# EAGLE library part LTV-846 (library LTV-846)
LTV Series Quad Channel 80 V 5000 Vrms Transistor Output Optocoupler - DIP-16
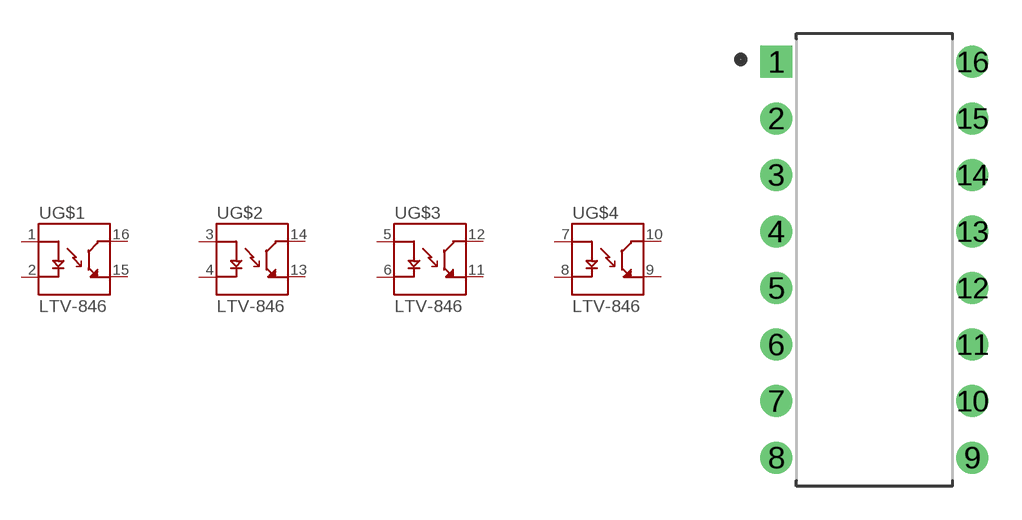
[diagram p0: symbol with the pads of DIP880W50P254L2034H450Q16; footprint DIP880W50P254L2034H450Q16]

Designator prefix U; gates G$1=LTV-846 G$2=LTV-846 G$3=LTV-846 G$4=LTV-846

## LTV-846 (Availability: Unavailable; Description: LTV Series Quad Channel 80 V 5000 Vrms Transistor Output Optocoupler - DIP-16; MF: Lite-On Inc.; MP: LTV-846; Package: DIP-16 Lite-On; Price: None)  [DIP880W50P254L2034H450Q16]
1  G$1:A  pas
2  G$1:C  pas
3  G$2:A  pas
4  G$2:C  pas
5  G$3:A  pas
6  G$3:C  pas
7  G$4:A  pas
8  G$4:C  pas
9  G$4:ET  pas
10  G$4:CT  pas
11  G$3:ET  pas
12  G$3:CT  pas
13  G$2:ET  pas
14  G$2:CT  pas
15  G$1:ET  pas
16  G$1:CT  pas

## Footprint DIP880W50P254L2034H450Q16 (pad centres in mm)
LTV Series Quad Channel 80 V 5000 Vrms Transistor Output Optocoupler - DIP-16
drill 0.93 pad 1.4 square: 1 -4.4,8.89
drill 0.93 pad 1.4: 2 -4.4,6.35; 3 -4.4,3.81; 4 -4.4,1.27; 5 -4.4,-1.27; 6 -4.4,-3.81; 7 -4.4,-6.35; 8 -4.4,-8.89; 9 4.4,-8.89; 10 4.4,-6.35; 11 4.4,-3.81; 12 4.4,-1.27; 13 4.4,1.27; 14 4.4,3.81; 15 4.4,6.35; 16 4.4,8.89